# Altium schematic symbol library LED_SchematicLibrary.SchLib: 14 symbols
Pins are listed as number, name and electrical type; pins without a type are passive.

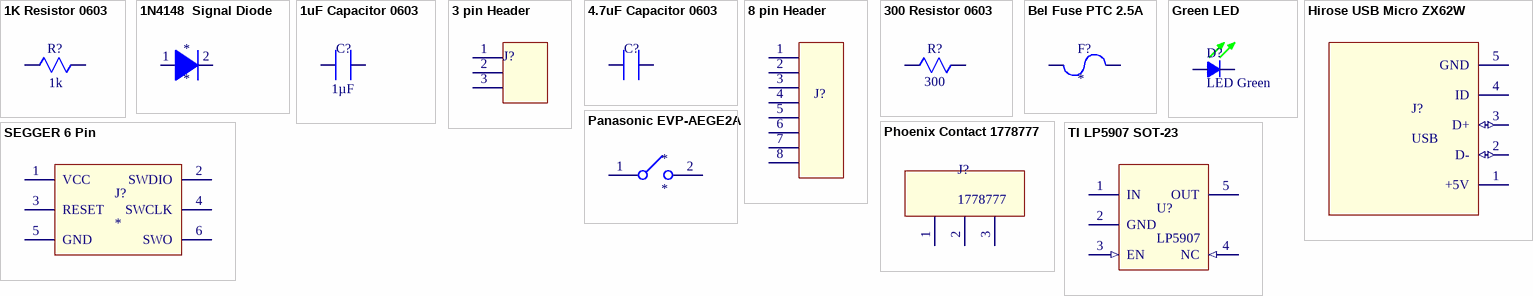
[diagram p0: symbols 1K Resistor 0603 to TI LP5907 SOT-23]

## 1K Resistor 0603
designator R?  Resistance (Ohms): 1k  (hidden comment: *)
Thick Film Resistor; Manufacturer: Panasonic Electronic Components; Manufacturer Part Number: ERJ-PA3J102V; Tolerance: ±5%; Power (Watts): 0.25W, 1/4W; Temperature Coefficient: ±200ppm/°C; ID: 24182260; Supplier 1: Digi-Key; RoHS: RoHS Compliant; Category: Resistors; Stock 1: 16957; Pricing 1: 1=0.17, 50=0.0788, 100=0.0562, 250=0.0438, 500=0.03482, 1000=0.02472 (CAD); Packaging: Cut Tape (CT); Composition: Thick Film; Features: Automotive AEC-Q200, Pulse Withstanding; Operating Temperature: -55°C ~ 155°C; Package / Case: 0603 (1608 Metric); Supplier Device Package: 0603; Size / Dimension: 0.063" L x 0.031" W (1.60mm x 0.80mm); Height: 0.018" (0.45mm); Number of Terminations: 2; ComponentLink1URL: http://media.digikey.com/pdf/Data%20Sheets/Panasonic%20Electronic%20Components/ERJ_PA2_P03_PA3_P06_P08_P14.pdf; ComponentLink1Description: http://media.digikey.com/pdf/Data%20Sheets/Panasonic%20Electronic%20Components/ERJ_PA2_P03_PA3_P06_P08_P14.pdf; Supplier 2: Arrow; Stock 2: 705; Pricing 2: 1=0.0475, 10=0.034, 25=0.0306, 100=0.0216, 250=0.0199, 500=0.0181, 1000=0.0146, 3000=0.014 (USD); Package Quantity: 1; ComponentLink2URL: https://www.arrow.com/en/products/erj-pa3j102v/panasonic/; ComponentLink2Description: https://www.arrow.com/en/products/erj-pa3j102v/panasonic/; Supplier Part Number 1: P1KBZCT-ND
footprint 0603 Resistor
pins: 1, 2

## 1N4148  Signal Diode
designator *
Manufacturer: Diodes Incorporated; Manufacturer Part Number: 1N4148W-7-F; Diode Type: Standard; Voltage - DC Reverse (Vr) (Max): 100V; Current - Average Rectified (Io): 300mA (DC); Voltage - Forward (Vf) (Max) @ If: 1.25V @ 150mA; Speed: Small Signal =< 200mA (Io), Any Speed; Reverse Recovery Time (trr): 4ns; Current - Reverse Leakage @ Vr: 1µA @ 75V; Capacitance @ Vr, F: 2pF @ 0V, 1MHz; ID: 1714436; Supplier 1: Digi-Key; Supplier Part Number 1: 1N4148W-FDICT-ND; RoHS: RoHS Compliant; Category: Discrete Semiconductor Products; Stock: 677563; Pricing: 1=0.23, 10=0.21, 100=0.1144, 500=0.0703, 1000=0.04795 (CAD); Packaging: Cut Tape (CT); Mounting Type: Surface Mount; Package / Case: SOD-123; Supplier Device Package: SOD-123; Operating Temperature - Junction: -65°C ~ 150°C; ComponentLink1URL: http://www.diodes.com/_files/datasheets/ds30086.pdf; ComponentLink1Description: http://www.diodes.com/_files/datasheets/ds30086.pdf; Supplier 2: Arrow; Supplier Part Number 2: qGuXMDRaNl_KoQBYMfe7_99CRBuHqqilnsXTplILN10; Package Quantity: 3000; ComponentLink2URL: https://www.arrow.com/en/products/1n4148w-7-f/diodes-incorporated/; ComponentLink2Description: https://www.arrow.com/en/products/1n4148w-7-f/diodes-incorporated/
footprint 1N4148
pins: 1, 2

## 1uF Capacitor 0603
designator C?  Capacitance: 1µF  (hidden comment: *)
Manufacturer: Samsung Electro-Mechanics America, Inc.; Manufacturer Part Number: CL10A105KQ8NNNC; Tolerance: ±10%; Voltage - Rated: 6.3V; Temperature Coefficient: X5R; ID: 2209065; Supplier 1: Digi-Key; Supplier Part Number 1: 1276-1036-1-ND; RoHS: RoHS Compliant; Category: Capacitors; Stock: 255020; Pricing: 1=0.14, 10=0.044, 25=0.0304, 50=0.0234, 100=0.0197, 500=0.01386, 1000=0.01079 (CAD); Packaging: Cut Tape (CT); Mounting Type: Surface Mount, MLCC; Operating Temperature: -55°C ~ 85°C; Applications: General Purpose; Ratings: -; Package / Case: 0603 (1608 Metric); Size / Dimension: 0.063" L x 0.031" W (1.60mm x 0.80mm); Height - Seated (Max): -; Thickness (Max): 0.035" (0.90mm); Lead Spacing: -; Features: -; Lead Style: -; ComponentLink1URL: http://www.samsungsem.com/kr/support/product-search/mlcc/CL10A105KQ8NNNC.jsp; ComponentLink1Description: http://www.samsungsem.com/kr/support/product-search/mlcc/CL10A105KQ8NNNC.jsp; Supplier 2: Arrow; Supplier Part Number 2: ANjCIXQXliC5mKB1Qk6Xrhkz1SpT5kQgHDCWjH3001UZVywxIBNyoAQstvnyfZZ0; Package Quantity: 1; ComponentLink2URL: https://www.arrow.com/en/products/cl10a105kq8nnnc/samsung-electro-mechanics/; ComponentLink2Description: https://www.arrow.com/en/products/cl10a105kq8nnnc/samsung-electro-mechanics/
footprint 0603 Capacitor
pins: 1, 2

## 3 pin Header
designator J?  (value not drawn)
footprint 3 Pin Header
pins: 1, 2, 3

## 4.7uF Capacitor 0603
designator C?  (value not drawn)
Manufacturer: Samsung Electro-Mechanics America, Inc.; Manufacturer Part Number: CL10A475KP8NNNC; Capacitance: 4.7µF; Tolerance: ±10%; Voltage - Rated: 10V; Temperature Coefficient: X5R; ID: 1769822; Supplier 1: Digi-Key; Supplier Part Number 1: 1276-1044-1-ND; RoHS: RoHS Compliant; Category: Capacitors; Stock: 204721; Pricing: 1=0.2, 10=0.134, 25=0.1008, 50=0.0772, 100=0.0639, 500=0.04508, 1000=0.03701 (CAD); Packaging: Cut Tape (CT); Mounting Type: Surface Mount, MLCC; Operating Temperature: -55°C ~ 85°C; Applications: General Purpose; Ratings: -; Package / Case: 0603 (1608 Metric); Size / Dimension: 0.063" L x 0.031" W (1.60mm x 0.80mm); Height - Seated (Max): -; Thickness (Max): 0.035" (0.90mm); Lead Spacing: -; Features: -; Lead Style: -; ComponentLink1URL: http://www.samsungsem.com/kr/support/product-search/mlcc/CL10A475KP8NNNC.jsp; ComponentLink1Description: http://www.samsungsem.com/kr/support/product-search/mlcc/CL10A475KP8NNNC.jsp; Supplier 2: Arrow; Supplier Part Number 2: M_3eh25a_Vzy938a24wKin5cr0Pl9rymhLnFaQTS6P8ZVywxIBNyoAQstvnyfZZ0; Package Quantity: 4000; ComponentLink2URL: https://www.arrow.com/en/products/cl10a475kp8nnnc/samsung-electro-mechanics/; ComponentLink2Description: https://www.arrow.com/en/products/cl10a475kp8nnnc/samsung-electro-mechanics/
footprint 0603 Capacitor
pins: 1, 2

## 8 pin Header
designator J?  (value not drawn)
footprint 8 Pin Header
pins: 1, 2, 3, 4, 5, 6, 7, 8

## 300 Resistor 0603
designator R?  Resistance (Ohms): 300  (hidden comment: *)
Thick Film Resistor; Manufacturer: Panasonic Electronic Components; Manufacturer Part Number: ERJ-3EKF3000V; Tolerance: ±1%; Power (Watts): 0.1W, 1/10W; Temperature Coefficient: ±100ppm/°C; ID: 2155562; Supplier 1: Digi-Key; Supplier Part Number 1: P300HCT-ND; RoHS: RoHS Compliant; Category: Resistors; Stock: 565657; Pricing: 1=0.15, 50=0.0172, 100=0.0126, 250=0.00968, 500=0.00772, 1000=0.00569 (CAD); Packaging: Cut Tape (CT); Composition: Thick Film; Features: Automotive AEC-Q200; Operating Temperature: -55°C ~ 155°C; Package / Case: 0603 (1608 Metric); Supplier Device Package: 0603; Size / Dimension: 0.063" L x 0.031" W (1.60mm x 0.80mm); Height: 0.022" (0.55mm); Number of Terminations: 2; ComponentLink1URL: http://industrial.panasonic.com/www-cgi/jvcr13pz.cgi?E+PZ+3+AOA0002+ERJ3EKF3000V+7+WW; ComponentLink1Description: http://industrial.panasonic.com/www-cgi/jvcr13pz.cgi?E+PZ+3+AOA0002+ERJ3EKF3000V+7+WW; Supplier 2: Arrow; Package Quantity: 5000; ComponentLink2URL: https://www.arrow.com/en/products/erj3ekf3000v/panasonic/; ComponentLink2Description: https://www.arrow.com/en/products/erj3ekf3000v/panasonic/
footprint 0603 Resistor
pins: 1, 2

## Bel Fuse PTC 2.5A
designator F?
Manufacturer: Bel Fuse Inc.; Manufacturer Part Number: 0ZCG0260FF2C; Voltage - Max: 6V; Current - Max: 100A; Current - Hold (Ih) (Max): 2.6A; Current - Trip (It): 5A; R Min/Max: 0.015 ~ 0.047 Ohm; Time to Trip: 2.5s; ID: 22348334; Supplier 1: Digi-Key; Supplier Part Number 1: 507-1778-1-ND; RoHS: RoHS Compliant; Category: Circuit Protection; Stock: 6281; Pricing: 1=0.25, 10=0.238, 25=0.22, 100=0.1976, 250=0.176, 500=0.14664, 1000=0.13896 (CAD); Packaging: Cut Tape (CT); Package / Case: 1812 (4532 Metric), Concave; ComponentLink1URL: http://www.belfuse.com/pdfs/0ZCG.pdf; ComponentLink1Description: http://www.belfuse.com/pdfs/0ZCG.pdf; Supplier 2: Arrow; Supplier Part Number 2: r6YVwPH8NJRLNaB5KQ1mnZ_SxyFBPytL0uh_ZtRKCTM; Package Quantity: 1; ComponentLink2URL: https://www.arrow.com/en/products/0zcg0260ff2c/bel-fuse/; ComponentLink2Description: https://www.arrow.com/en/products/0zcg0260ff2c/bel-fuse/
footprint 1812
pins: 1, 2

## Green LED
designator D?, comment LED Green
LED Green Diffused 0603; Manufacturer: Rohm; Manufacturer Part Number: SML-D12M8WT86; TZOA PN: XXX; Intensity: 100 mcd; Forward (Drive) Current: 20 mA; Forward Voltage: 2.2 V; Supplier 1: Digi-Key; Stock 1: 105158; Pricing 1: 1=0.34, 10=0.251, 25=0.1848, 100=0.132, 250=0.0898, 500=0.0792, 1000=0.062 (USD); Color: Green; Dimension: 0603; Lens Type: Diffused; ComponentLink1URL: https://datasheet.ciiva.com/11774/0900766b80df3ada-11774260.pdf; ComponentLink1Description: https://datasheet.ciiva.com/11774/0900766b80df3ada-11774260.pdf; ComponentLink2URL: https://datasheet.ciiva.com/3161/sml-d1-3161419.pdf; ComponentLink2Description: https://datasheet.ciiva.com/3161/sml-d1-3161419.pdf; ComponentLink3URL: https://datasheet.ciiva.com/2110/sml-d1-2110396.pdf; ComponentLink3Description: https://datasheet.ciiva.com/2110/sml-d1-2110396.pdf; ComponentLink4URL: https://datasheet.ciiva.com/2110/sml-d1-2110397.pdf; ComponentLink4Description: https://datasheet.ciiva.com/2110/sml-d1-2110397.pdf; ComponentLink5URL: https://datasheet.ciiva.com/2110/sml-d1-2110398.pdf; ComponentLink5Description: https://datasheet.ciiva.com/2110/sml-d1-2110398.pdf; Supplier Part Number 1: 511-1578-1-ND
footprint LED_0603
pins: 1, 2

## Hirose USB Micro ZX62W
designator J?, comment USB
CONN Micro-USB B 2.0 Receptacle Splash-proof; Manufacturer: Hirose Electric Co Ltd; Manufacturer Part Number: ZX62WRD-B-5PC; Connector Type: USB - micro B; Number of Contacts: 5; Specifications: USB 2.0; Ingress Protection: Splash Proof; TZOA PN: 410-00002; Supplier 1: Digi-Key; Supplier Part Number 1: H12192CT-ND; RoHS: RoHS Compliant; Category: Connectors, Interconnects; Stock: 18581; Pricing: 1=1.93, 10=1.701, 25=1.6012, 50=1.5348, 100=1.4678, 250=1.3344, 500=1.20096, 1000=1.06752 (CAD); Packaging: Cut Tape (CT); Gender: Receptacle; Mounting Type: Surface Mount, Right Angle, Horizontal; Features: Board Guide; ComponentLink1URL: http://media.digikey.com/PDF/Data%20Sheets/Hirose%20PDFs/ZX62WRD-B-5PC_Specs.pdf; ComponentLink1Description: http://media.digikey.com/PDF/Data%20Sheets/Hirose%20PDFs/ZX62WRD-B-5PC_Specs.pdf
footprint Hirose ZX62WRD (ZX62WRD-B-5PC)
pins: 1 +5V, 2 D- (io), 3 D+ (io), 4 ID, 5 GND

## Panasonic EVP-AEGE2A
designator *
footprint Panasonic EVP-AEGE2A
pins: 1, 2

## Phoenix Contact 1778777
designator J?, comment 1778777
Phoenix Contact Interconnect; Manufacturer Part Number: 1778780; Number of Positions: 4; Number of Levels: 1; Pitch: 0.098" (2.50mm); Header Orientation: 90°, Right Angle; Current - IEC: 6A; Voltage - IEC: 160V; ID: 1530339; Supplier 1: Digi-Key; Supplier Part Number 1: 277-2317-1-ND; Manufacturer: Phoenix Contact; RoHS: RoHS Compliant; Category: Connectors, Interconnects; Stock: 1266; Pricing: 1=1.65, 10=1.523, 50=1.46, 100=1.3965, 250=1.3584 (CAD); Packaging: Cut Tape (CT); Type: Header, Male Pins, Shrouded (4 Side); Positions Per Level: 4; Plug Wire Entry: -; Termination Style: Solder; Mounting Type: Surface Mount; Current - UL: -; Voltage - UL: -; Wire Gauge or Range - AWG: -; Wire Gauge or Range - mm²: -; Color: Black; Operating Temperature: -; Contact Mating Finish: Tin; Features: Board Guide, Pick and Place Cap, Solder Retention; ComponentLink1URL: http://media.digikey.com/PDF/Data%20Sheets/Phoenix%20Contact%20PDFs/1778780.pdf; ComponentLink1Description: http://media.digikey.com/PDF/Data%20Sheets/Phoenix%20Contact%20PDFs/1778780.pdf; Supplier 2: Arrow; Supplier Part Number 2: mCKIB_HTDp9v8QwE_K-niYYIGoGiAzzz0BJSXB1u7YE; Package Quantity: 600; ComponentLink2URL: https://www.arrow.com/en/products/1778780/phoenix-contact/; ComponentLink2Description: https://www.arrow.com/en/products/1778780/phoenix-contact/
footprint 1778777 (Phoenix Contact Interconnect)
pins: 1 (power), 2 (power), 3 (power)

## SEGGER 6 Pin
designator J?
footprint SEGGER 6 PIN
pins: 1 VCC, 2 SWDIO, 3 RESET, 4 SWCLK, 5 GND, 6 SWO

## TI LP5907 SOT-23
designator U?, comment LP5907
Ultra low noise LDO; Manufacturer: Texas Instruments; Manufacturer Part Number: LP5907MFX-1.8/NOPB; Regulator Topology: Positive Fixed; Voltage - Output: 1.8V; Current - Output: 250mA; Number of Regulators: 1; Voltage - Input: 2.2 V ~ 5.5 V; ID: 17503727; RoHS: RoHS Compliant; Category: Integrated Circuits (ICs); Packaging: Tape & Reel (TR); Voltage - Dropout (Typical): -; Current - Limit (Min): -; Operating Temperature: -40°C ~ 125°C; Mounting Type: Surface Mount; Package / Case: SC-74A, SOT-753; Supplier Device Package: SOT-23; ComponentLink1URL: http://www.ti.com/lit/ds/symlink/lp5907.pdf; ComponentLink1Description: http://www.ti.com/lit/ds/symlink/lp5907.pdf; Supplier 1: Digi-Key; Stock 1: 58474; Pricing 1: 1=0.8, 10=0.688, 100=0.5136, 500=0.40346, 1000=0.22217 (CAD); Supplier 2: Arrow; Stock 2: 2055; Pricing 2: 1=0.4044, 10=0.3694, 25=0.3452, 100=0.2887, 250=0.2871, 500=0.2721, 1000=0.2345 (USD); Package Quantity: 1; ComponentLink2URL: https://www.arrow.com/en/products/lp5907mfx-3.3nopb/texas-instruments/; ComponentLink2Description: https://www.arrow.com/en/products/lp5907mfx-3.3nopb/texas-instruments/; Supplier Part Number 1: 296-38557-1-ND; Supplier Part Number 2: UCvGI_wbcr0u-WQkU9tEzFXIePrmASIN4yCcss4CHMI
footprint SOT-23-5
pins: 1 IN (power), 2 GND (power), 3 EN (in), 4 NC (in), 5 OUT (power)